# Altium schematic symbol library Cap_Panasonic_ECA-1HM101_eec.SchLib: 1 symbol
Pins are listed as number, name and electrical type; pins without a type are passive.

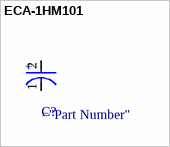
[diagram p0: symbol ECA-1HM101]

## ECA-1HM101
designator C?  (value not drawn)
pins: 1 C, 2 A
text: +